# EAGLE library part TMP75CIDR (library custom)
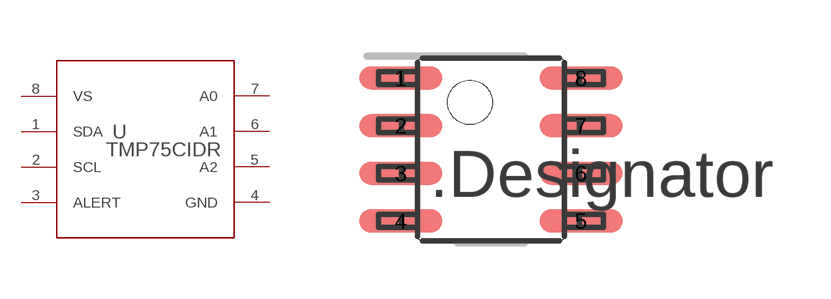
[diagram p10: symbol with the pads of D0008A_N; footprint D0008A_N]

Designator prefix U

## TMP75CIDR (ALTERNATEPARTNUMBER: TMP75CID; APPLICATION_BUILDNUMBER: *; COMPTYPE: IC; MANUFACTURER: Texas Instruments; MOUNTTYPE: SMT; PACKAGEREFERENCE: D0008A; PARTNUMBER: TMP75CIDR; PIN_COUNT: 8; REFDES: RefDes; ROHS: Y; TYPE: TYPE; VALUE: Value)  [D0008A_N]
1  SDA
2  SCL  in
3  ALERT  oc
4  GND  pwr
5  A2  in
6  A1  in
7  A0  in
8  VS  pwr

## Footprint D0008A_N (pad centres in mm)
smd 2.21 x 0.61: 1 -2.4,1.905; 2 -2.4,0.635; 3 -2.4,-0.635; 4 -2.4,-1.905; 5 2.4,-1.905; 6 2.4,-0.635; 7 2.4,0.635; 8 2.4,1.905